# Altium footprint library 618 0xx 251 23.PcbLib: 4 footprints
Each footprint in its own frame and in the unit in brackets; x right, y up, seen from the top. Pads: shape width x height; smd on the part's side, far side on the other; paste and mask are expansions set on the pad; w line width, h text height; cw(c..) or ccw(c..) is an arc to the next point about the centre after c.
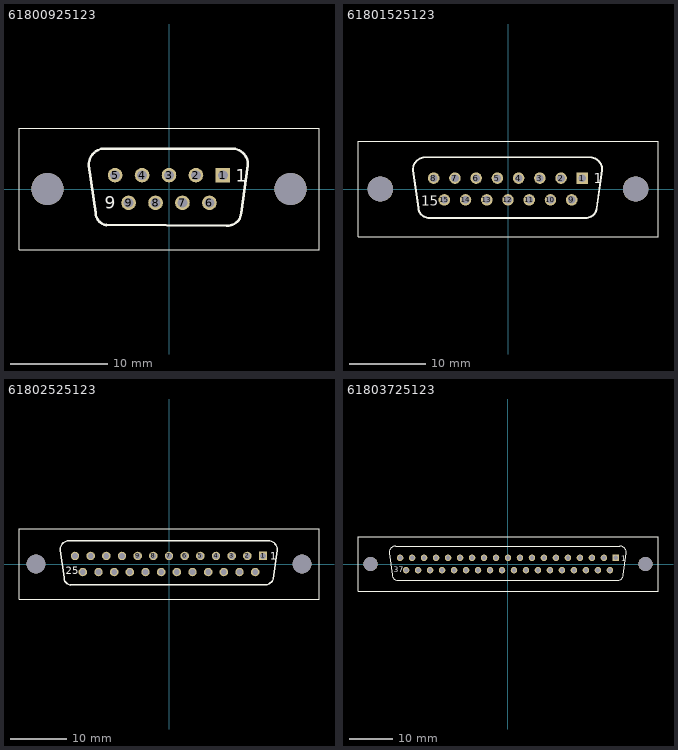
[diagram p0: the footprints below, top view; thin cyan lines are the x and y axes]

## 61800925123 [mm] "9 pins, straight"
height 10.7
pads (11):
  rect 1.5x1.5 hole 1: 1(5.54,1.42)
  round 1.5 hole 1: 2(2.77,1.42) 3(0,1.42) 4(-2.77,1.42) 5(-5.54,1.42) 6(4.155,-1.42) 7(1.385,-1.42) 8(-1.385,-1.42) 9(-4.155,-1.42)
  round 3.3 hole 3.3 unplated: ""(-12.495,0) ""(12.495,0)
Top Overlay:
  lines w0.127: -15.405,-6.25 -15.405,6.25 15.405,6.25 15.405,-6.25 -15.405,-6.25
  lines w0.254: -6.725,4.14 ccw(c-6.619,2.533) -8.225,2.427 -7.537,-2.473 ccw(c-6.15,-2.374) -6.467,-3.727 ; -6.725,4.143 6.59,4.143 ; -6.46,-3.696 5.916,-3.76 ; 5.931,-3.76 ccw(c6.03,-2.374) 7.417,-2.473 8.105,2.427 ccw(c6.499,2.533) 6.605,4.14
  text "1" at 6.858,0.762 h1.27
  text "9" at -6.604,-2.032 h1.27
3D body: height 12.7, standoff -3.6, extent -15.405,-6.25 15.405,6.25

## 61801525123 [mm] "15 pins, straight"
height 10.7
pads (17):
  rect 1.5x1.5 hole 1: 1(9.695,1.42)
  round 1.5 hole 1: 2(6.925,1.42) 3(4.155,1.42) 4(1.385,1.42) 5(-1.385,1.42) 6(-4.155,1.42) 7(-6.925,1.42) 8(-9.695,1.42) 9(8.31,-1.42) 10(5.54,-1.42) 11(2.77,-1.42) 12(0,-1.42) 13(-2.77,-1.42) 14(-5.54,-1.42) 15(-8.31,-1.42)
  round 3.3 hole 3.3 unplated: ""(-16.66,0) ""(16.66,0)
Top Overlay:
  lines w0.127: -19.57,-6.25 19.57,-6.25 19.57,6.25 -19.57,6.25 -19.57,-6.25
  lines w0.254: -10.89,4.14 ccw(c-10.784,2.533) -12.391,2.427 -11.702,-2.473 ccw(c-10.316,-2.374) -10.217,-3.76 ; -10.89,4.143 10.77,4.143 ; -10.202,-3.756 10.081,-3.756 ; 10.096,-3.76 ccw(c10.195,-2.374) 11.581,-2.473 12.27,2.427 ccw(c10.663,2.533) 10.77,4.14
  text "15" at -11.303,-2.159 h1.27
  text "1" at 11.176,0.762 h1.27
3D body: height 12.7, standoff -3.6, extent -19.57,-6.25 19.57,6.25

## 61802525123 [mm] "25 pins, straight"
height 10.7
pads (27):
  rect 1.5x1.5 hole 1: 1(16.62,1.42)
  round 1.5 hole 1: 2(13.85,1.42) 3(11.08,1.42) 4(8.31,1.42) 5(5.54,1.42) 6(2.77,1.42) 7(0,1.42) 8(-2.77,1.42) 9(-5.54,1.42) 10(-8.31,1.42) 11(-11.08,1.42) 12(-13.85,1.42) 13(-16.62,1.42) 14(15.235,-1.42) 15(12.465,-1.42) 16(9.695,-1.42) 17(6.925,-1.42) 18(4.155,-1.42) 19(1.385,-1.42) 20(-1.385,-1.42) 21(-4.155,-1.42) 22(-6.925,-1.42) 23(-9.695,-1.42) 24(-12.465,-1.42) 25(-15.235,-1.42)
  round 3.3 hole 3.3 unplated: ""(-23.52,0) ""(23.52,0)
Top Overlay:
  lines w0.127: -26.52,-6.25 -26.52,6.25 26.52,6.25 26.52,-6.25 -26.52,-6.25
  lines w0.254: -17.75,4.14 ccw(c-17.644,2.533) -19.25,2.427 -18.562,-2.473 ccw(c-17.175,-2.374) -17.492,-3.727 ; -17.75,4.144 17.63,4.14 cw(c17.524,2.533) 19.13,2.427 18.401,-2.647 ; -17.485,-3.712 16.941,-3.712 ; 16.958,-3.708 ccw(c16.953,-2.161) 18.415,-2.667
  text "1" at 17.907,0.762 h1.27
  text "25" at -18.288,-1.778 h1.27
3D body: height 12.7, standoff -3.6, extent -26.52,-6.25 26.52,6.25

## 61803725123 [mm] "37 pins, straight"
height 10.7
pads (39):
  rect 1.5x1.5 hole 1: 1(24.93,1.42)
  round 1.5 hole 1: 2(22.16,1.42) 3(19.39,1.42) 4(16.62,1.42) 5(13.85,1.42) 6(11.08,1.42) 7(8.31,1.42) 8(5.54,1.42) 9(2.77,1.42) 10(0,1.42) 11(-2.77,1.42) 12(-5.54,1.42) 13(-8.31,1.42) 14(-11.08,1.42) 15(-13.85,1.42) 16(-16.62,1.42) 17(-19.39,1.42) 18(-22.16,1.42) 19(-24.93,1.42) 20(23.545,-1.42) 21(20.775,-1.42) 22(18.005,-1.42) 23(15.235,-1.42) 24(12.465,-1.42) 25(9.695,-1.42) 26(6.925,-1.42) 27(4.155,-1.42) 28(1.385,-1.42) 29(-1.385,-1.42) 30(-4.155,-1.42) 31(-6.925,-1.42) 32(-9.695,-1.42) 33(-12.465,-1.42) 34(-15.235,-1.42) 35(-18.005,-1.42) 36(-20.775,-1.42) 37(-23.545,-1.42)
  round 3.3 hole 3.3 unplated: ""(-31.75,0) ""(31.75,0)
Top Overlay:
  lines w0.127: -34.66,-6.25 -34.66,6.25 34.66,6.25 34.66,-6.25 -34.66,-6.25
  lines w0.254: -25.98,4.14 ccw(c-25.874,2.533) -27.48,2.427 -26.792,-2.473 ccw(c-25.405,-2.374) -25.306,-3.76 ; -25.98,4.143 25.86,4.143 ; -25.291,-3.756 25.171,-3.756 ; 25.186,-3.76 ccw(c25.285,-2.374) 26.672,-2.473 27.36,2.427 ccw(c25.754,2.533) 25.86,4.14
  text "1" at 26.162,0.635 h1.27
  text "37" at -26.416,-1.905 h1.27
3D body: height 12.7, standoff -3.6, extent -34.66,-6.25 34.66,6.25